# Altium footprint library PCB - MISC - DSUB15.PcbLib: 2 footprints
Each footprint in its own frame and in the unit in brackets; x right, y up, seen from the top. Pads: shape width x height; smd on the part's side, far side on the other; paste and mask are expansions set on the pad; w line width, h text height; cw(c..) or ccw(c..) is an arc to the next point about the centre after c.
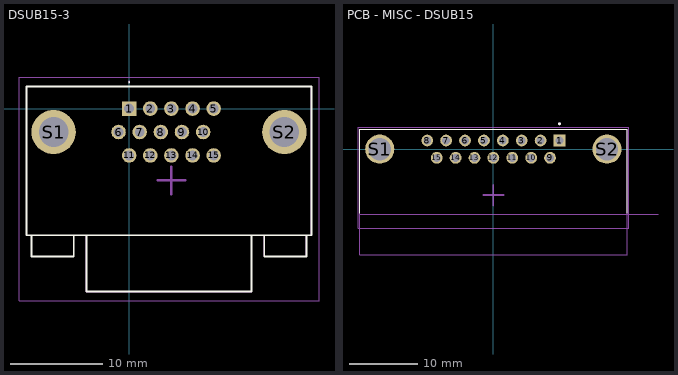
[diagram p0: the footprints below, top view; thin cyan lines are the x and y axes]

## DSUB15-3 [mm]
pads (17):
  rect 1.575x1.575 hole 1.05: 1(0,0)
  round 1.575 hole 1.05: 2(2.29,0) 3(4.58,0) 4(6.87,0) 5(9.16,0) 6(-1.145,-2.54) 7(1.145,-2.54) 8(3.435,-2.54) 9(5.725,-2.54) 10(8.015,-2.54) 11(0,-5.08) 12(2.29,-5.08) 13(4.58,-5.08) 14(6.87,-5.08) 15(9.16,-5.08)
  round 4.8 hole 3.2: S1(-8.175,-2.54) S2(16.815,-2.54)
Top Overlay:
  lines w0.1: 0,2.8 cw(c0,2.85) 0,2.9 cw(c0,2.85) 0,2.8
  lines w0.2: -10.565,-13.71 -10.565,-16 -5.985,-16 -5.985,-13.71 ; -4.63,-13.71 -4.63,-19.81 13.27,-19.81 13.27,-13.71 ; 14.625,-13.71 14.625,-16 19.205,-16 19.205,-13.71 ; -11.1,-13.71 19.74,-13.71 19.74,2.39 -11.1,2.39 -11.1,-13.71
Top Assembly:
  lines w0.1: -10.565,-13.71 -10.565,-16 -5.985,-16 -5.985,-13.71 ; -4.63,-13.71 -4.63,-19.81 13.27,-19.81 13.27,-13.71 ; 14.625,-13.71 14.625,-16 19.205,-16 19.205,-13.71 ; -11.1,-13.71 19.74,-13.71 19.74,2.39 -11.1,2.39 -11.1,-13.71 ; 0,2.871 cw(c0,2.921) 0,2.971 cw(c0,2.921) 0,2.871
Top Courtyard:
  lines w0.1: -11.92,-20.81 20.56,-20.81 20.56,3.39 -11.92,3.39 -11.92,-20.81
Top Designator (Mech9):
  text ".Designator" at 2.706,-7.845 h1
Top Component Center:
  lines w0.254: 3.08,-7.747 6.08,-7.747 ; 4.58,-9.271 4.58,-6.271
3D body "17EBH015PAM110.stp": height 12.62, standoff -3.7, extent -11.087,-19.939 19.723,2.231

## PCB - MISC - DSUB15 [mm]
height 12.93
pads (17):
  rect 1.725x1.725 / inner round 1.725 / far side rect 1.725x1.725 hole 1.15: 1(9.695,1.27)
  round 1.725 hole 1.15: 2(6.925,1.27) 3(4.155,1.27) 4(1.385,1.27) 5(-1.385,1.27) 6(-4.155,1.27) 7(-6.925,1.27) 8(-9.695,1.27) 9(8.31,-1.27) 10(5.54,-1.27) 11(2.77,-1.27) 12(0,-1.27) 13(-2.77,-1.27) 14(-5.54,-1.27) 15(-8.31,-1.27)
  round 4.266 hole 3.25: S1(-16.66,0) S2(16.66,0)
Top Overlay:
  circle w0.2: c9.69,3.717 r0.1
  lines w0.127: -19.595,-9.398 -19.595,2.93 19.595,2.93 19.595,-9.398
Top Assembly:
  circle w0.2: c9.69,3.717 r0.1
  lines w0.127: -19.595,-9.52 19.595,-9.52 24.135,-9.52 ; 19.595,-11.67 19.595,2.93 -19.595,2.93 -19.595,-11.67 -19.595,-15.494 19.595,-15.494 19.595,-9.525
  text "PCB EDGE" at 20.32,-8.89 h1.27
Top Courtyard:
  lines w0.05: -19.845,-11.557 19.845,-11.557 19.845,3.18 -19.845,3.18 -19.845,-11.557
Top Designator (Mech9):
  text ".Designator" at -19.773,4.093 h1
Top Component Center:
  lines w0.254: -1.5,-6.731 1.5,-6.731 ; 0,-8.255 0,-5.255
3D body "618015231121.stp": height 12.5, standoff -4, extent -19.63,-15.45 19.57,2.95